# Altium footprint library Driver.PcbLib: 18 footprints (part 1 of 2)
Each footprint in its own frame and in the unit in brackets; x right, y up, seen from the top. Pads: shape width x height; smd on the part's side, far side on the other; paste and mask are expansions set on the pad; w line width, h text height; cw(c..) or ccw(c..) is an arc to the next point about the centre after c.
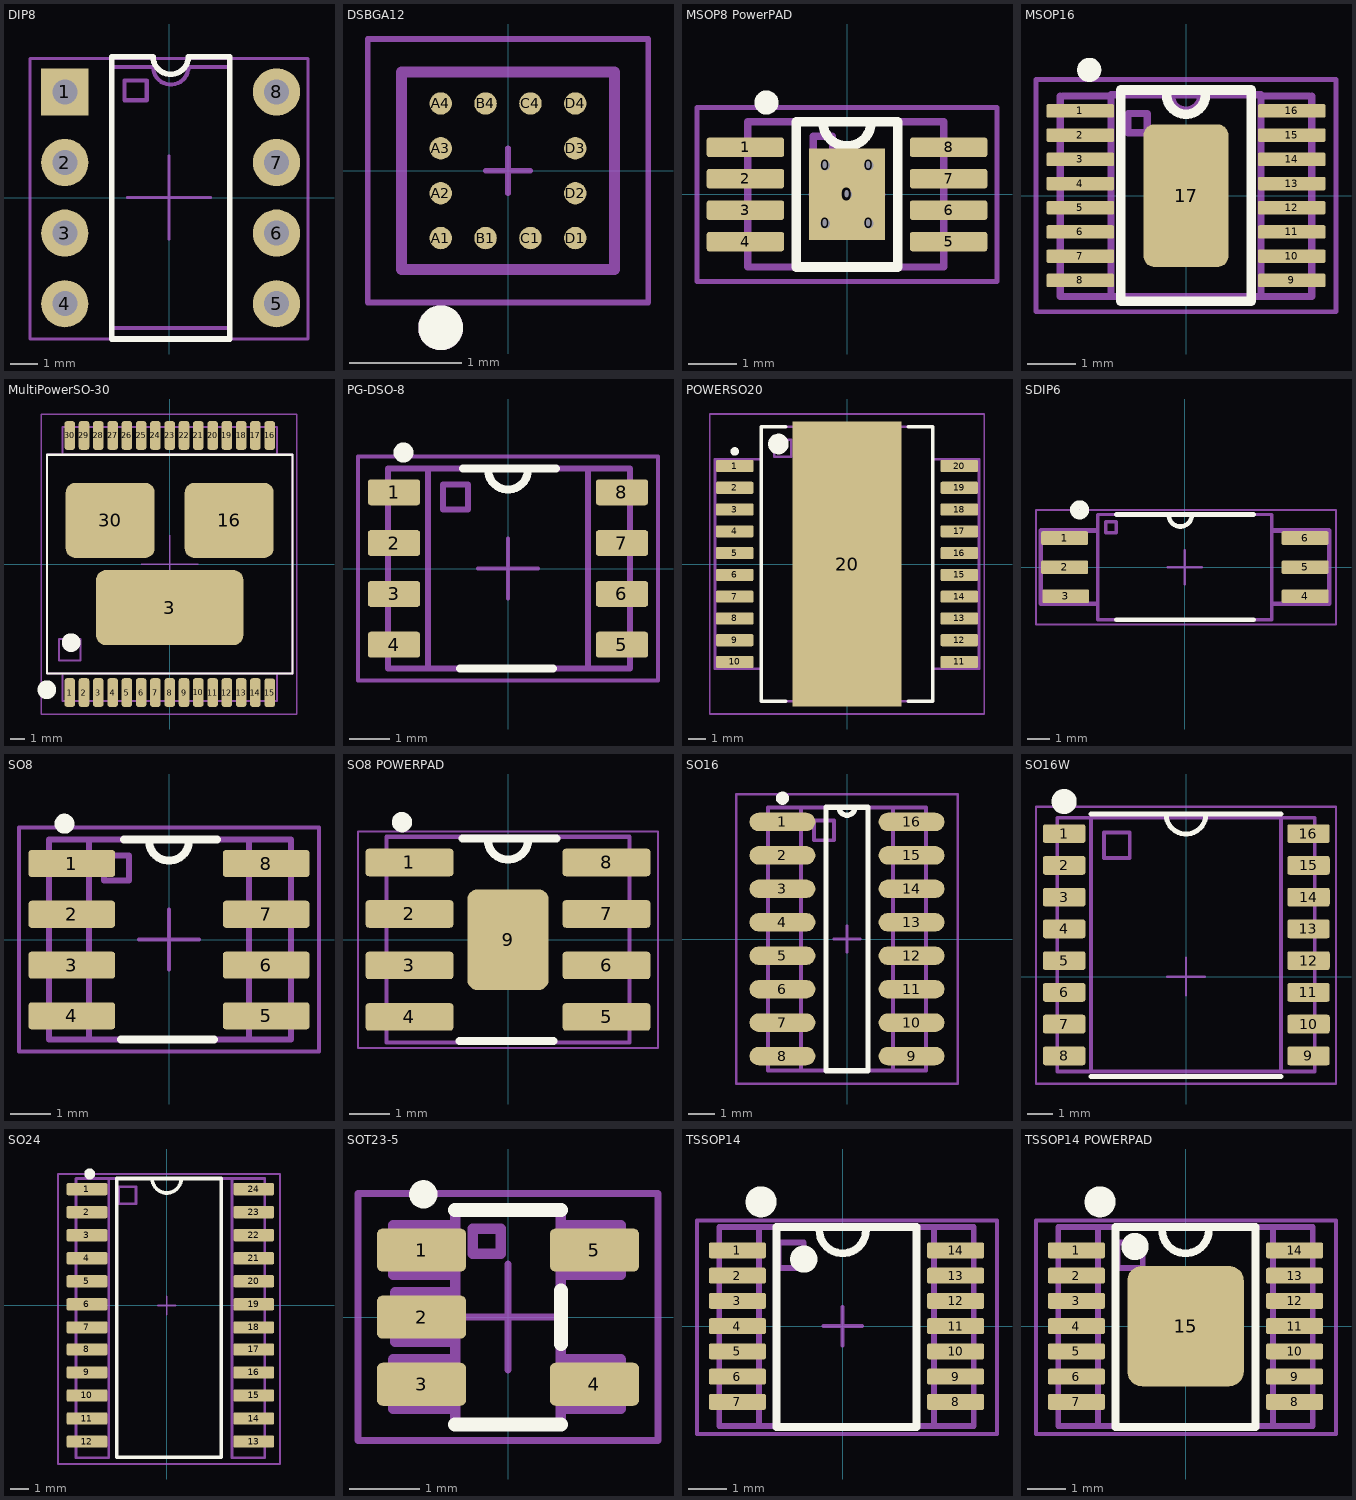
[diagram p0: the footprints below, top view; thin cyan lines are the x and y axes]

## DIP8 [mm]
pads (8):
  rect 1.7x1.7 hole 0.9: 1(-3.75,3.8)
  round 1.7 hole 0.9: 2(-3.75,1.26) 3(-3.75,-1.28) 4(-3.75,-3.82) 5(3.87,-3.82) 6(3.87,-1.28) 7(3.87,1.26) 8(3.87,3.8)
Top Overlay:
  lines w0.2: -2.065,-5.09 2.185,-5.09 2.185,5.07 0.695,5.07 cw(c0.06,5.07) -0.575,5.07 -2.065,5.07 -2.065,-5.09
Mechanical 7:
  lines w0.15: -2.065,-4.7 -2.065,4.7 -0.57,4.7 ccw(c0.065,4.7) 0.7,4.7 2.2,4.7 2.2,-4.7 -2.065,-4.7 ; -1.6,3.5 -1.6,4.212 -0.8,4.212 -0.8,3.5 -1.6,3.5
Mechanical 9:
  text ".Designator" at -5.1,6 h3
Mechanical 10:
  text ".Comment" at -3.1,-6.7 h2
Mechanical 15:
  lines w0.1: -1.5,0 1.5,0 ; 0,-1.5 0,1.5 ; -5,-5.09 -5,5 5,5 5,-5.09 -5,-5.09
3D body "User Library-DIP-8-1.step": height 4.36, standoff -3, extent -3.875,-4.71 3.995,4.69

## DSBGA12 [mm]
height 1.75
pads (12):
  round 0.2 smd: A1(-0.6,-0.6) A2(-0.6,-0.2) A3(-0.6,0.2) A4(-0.6,0.6) B1(-0.2,-0.6) B4(-0.2,0.6) C1(0.2,-0.6) C4(0.2,0.6) D1(0.6,-0.6) D2(0.6,-0.2) D3(0.6,0.2) D4(0.6,0.6)
Top Overlay:
  circle w0.2: c-0.6,-1.4 r0.1
Mechanical 9:
  text ".Designator" at -4.675,2.025 h3
Mechanical 10:
  text ".Comment" at -2.525,-2.95 h2
Mechanical 13:
  circle w0.2: c-0.6,-1.4 r0.1
  lines w0.1: -0.95,-0.88 0.95,-0.88 0.95,0.88 -0.95,0.88 -0.95,-0.88
Mechanical 15:
  lines w0.05: -0.2,0 0.2,0 ; 0,-0.2 0,0.2 ; -1.25,-1.175 -1.25,1.175 1.25,1.175 1.25,-1.175 -1.25,-1.175
3D body "step_temp.STEP": height 0.67, standoff 0.01, extent -0.937,-0.863 0.937,0.863

## MSOP8 PowerPAD [mm]
height 1.75
pads (14):
  round 0.4 hole 0.2: 0(-0.45,-0.6) 0(-0.45,0.6) 0(0,0) 0(0.45,-0.6) 0(0.45,0.6)
  rect 1.57x1.89 smd: 0(0,0)
  rrect25% 1.6x0.4 smd: 1(-2.1,0.975) 2(-2.1,0.325) 3(-2.1,-0.325) 4(-2.1,-0.975) 5(2.1,-0.975) 6(2.1,-0.325) 7(2.1,0.325) 8(2.1,0.975)
Top Overlay:
  circle w0.25: c-1.665,1.9 r0.125
  lines w0.2: -1.05,-1.5 -1.05,1.5 1.05,1.5 1.05,-1.5 -1,-1.5 ; -0.5,1.5 ccw(c0,1.5) 0.5,1.5
Mechanical 7:
  lines w0.15: -2.05,-1.5 -2.05,1.5 ; -2,-1.5 2,-1.5 2,1.5 -2,1.5 ; -1.05,-1.5 -1.05,1.5 ; 1.05,-1.5 1.05,1.5 ; -0.7,0.8 -0.7,1.2 -0.3,1.2 -0.3,0.8 -0.7,0.8
Mechanical 9:
  text ".Comment" at -1.25,-0.5 h0.8
  text ".Designator" at -1.25,0.25 h1
  text ".Designator" at -4.025,2.7 h3
Mechanical 10:
  text ".Comment" at -3.05,-3.275 h2
Mechanical 15:
  lines w0.1: -0.75,0 0.75,0 ; 0,-0.75 0,0.75 ; -3.1,-1.8 -3.1,1.8 3.1,1.8 3.1,-1.8 -3.1,-1.8
3D body "User Library-MSOP-8-4.step": height 0.96, standoff 0, extent -2.45,-1.5 2.45,1.5

## MSOP16 [mil]
height 68.9
pads (17):
  rrect25% 55x11 smd: 1(-86,68.95) 2(-86,49.25) 3(-86,29.55) 4(-86,9.85) 5(-86,-9.85) 6(-86,-29.55) 7(-86,-49.25) 8(-86,-68.95) 9(86,-68.95) 10(86,-49.25) 11(86,-29.55) 12(86,-9.85) 13(86,9.85) 14(86,29.55) 15(86,49.25) 16(86,68.95)
  rrect25% 69x116 smd: 17(0,0)
Top Overlay:
  circle w9.84: c-78.74,102.36 r4.92
  lines w7.87: -15.75,82 ccw(c0,82) 15.75,82 ; -53,-86 -53,86 53,86 53,-86 -53,-86
Top Paste:
  region: -30.56,-3.94 -30.56,-54.06 30.56,-54.06 30.56,-3.94
  region: -30.56,54.06 -30.56,3.94 30.56,3.94 30.56,54.06
Mechanical 7:
  lines w5.91: -47.24,51.18 -31.5,51.18 -31.5,66.93 -47.24,66.93 -47.24,51.18
  lines w6: -102.36,81.08 -102.36,-82 -61,-82 ; -100,81.08 -61,81.08 -61,63 -61,74 ; 61,81.08 100,81.08 ; 102.36,81.08 102.36,-82 61,-82 ; -61,-82 61,-82 ; -61,-82 -61,82 ; -61,-82 -61,82 ; -61,-82 61,-82 ; -61,82 12,82 ; -61,82 12,82 ; 12,82 61,82 ; 12,82 61,82 ; 61,-82 61,82 ; 61,-82 61,82 ; -61,-74 -61,-63 -61,-74 ; -61,-55 -61,-44 -61,-55 ; -61,-35 -61,-24 -61,-35 ; -61,-15 -61,-4 -61,-15 ; -61,4 -61,15 -61,4 ; -61,24 -61,35 -61,24 ; -61,44 -61,55 -61,44 ; -12,81.08 ccw(c0,81.5) 12,81.92 cw(c0,81.5) -12,81.08 ; 61,-74 61,-63 61,-74 ; 61,-55 61,-44 61,-55 ; 61,-35 61,-24 61,-35 ; 61,-15 61,-4 61,-15 ; 61,4 61,15 61,4 ; 61,24 61,35 61,24 ; 61,44 61,55 61,44 ; 61,63 61,74 61,63
Mechanical 9:
  text ".Designator" at -173.23,141.73 h118.11
Mechanical 10:
  text ".Comment" at -118.11,-153.54 h78.74
Mechanical 15:
  lines w3.94: -29.53,0 29.53,0 ; 0,-29.53 0,29.53 ; -122.05,-94.49 122.05,-94.49 122.05,94.49 -122.05,94.49 -122.05,-94.49
3D body "User Library-MSOP-16.step": height 37.8, standoff 3.94, extent -96.46,-79.51 96.46,79.51

## MultiPowerSO-30 [mm]
pads (33):
  rrect50% 0.74x2.01 smd: 1(-7,-9) 2(-6,-9) 3(-5,-9) 4(-4,-9) 5(-3,-9) 6(-2,-9) 7(-1,-9) 8(0,-9) 9(1,-9) 10(2,-8.995) 11(3,-9) 12(4,-9) 13(5,-9) 14(6,-9) 15(7,-9.01) 16(7,9) 17(6,9) 18(5,9) 19(4,9) 20(3,9) 21(2,9) 22(1,9) 23(0,9) 24(-1,9) 25(-2,9) 26(-3,9) 27(-4,9) 28(-5,9) 29(-6,9) 30(-7,9)
  rrect25% 10.3x5.25 smd: 3(0,-3.05)
  rrect25% 6.23x5.25 smd: 16(4.165,3.05) 30(-4.165,3.05)
Top Overlay:
  circle w1: c-6.9,-5.5 r0.15
  circle w1: c-8.6,-8.8 r0.15
  lines w0.15: -8.6,-7.675 -8.6,7.65 8.6,7.65 8.6,-7.675 -8.6,-7.675
Mechanical 9:
  text ".Designator" at -5.8,11.5 h3
Mechanical 11:
  lines w0.15: -8.6,-7.575 -8.6,7.65 8.6,7.65 8.6,-7.7 ; -8.5,-7.675 8.6,-7.675 ; -7.5,-7.675 -7.5,-9.6 7.5,-9.6 7.5,-7.675 ; -7.5,7.675 -7.5,9.6 7.5,9.6 7.5,7.675 ; -7.75,-6.75 -6.25,-6.75 -6.25,-5.25 -7.75,-5.25 -7.75,-6.75
Mechanical 15:
  lines w0.1: -2,0 2,0 ; 0,-2 0,2 ; -9,-10.5 -9,10.5 8.9,10.5 8.9,-10.5 -9,-10.5
3D body "User Library-PowSO30-ST.STEP": height 2.37, standoff -0.09, extent -8.6,-9.6 8.6,9.4

## PG-DSO-8 [mm]
height 1.75
pads (8):
  rrect25% 1.31x0.65 smd: 1(-2.85,1.905) 2(-2.85,0.635) 3(-2.85,-0.635) 4(-2.85,-1.905) 5(2.85,-1.905) 6(2.85,-0.635) 7(2.85,0.635) 8(2.85,1.905)
Top Overlay:
  circle w0.25: c-2.615,2.9 r0.125
  lines w0.2: -1.2,-2.5 1.125,-2.5 ; -1.125,2.5 1.2,2.5 ; -0.5,2.475 ccw(c0,2.475) 0.5,2.475
Mechanical 7:
  lines w0.15: -2,-2.5 -2,2.5 ; 2,-2.5 2,2.5 ; -3,-2.5 3.05,-2.5 3.05,2.5 -3,2.5 -3,-2.5 ; -1.625,1.475 -1.625,2.1 -1,2.1 -1,1.475 -1.625,1.475
Mechanical 9:
  text ".Designator" at -3.7,3.5 h3
Mechanical 10:
  text ".Comment" at -2.75,-4 h2
Mechanical 15:
  lines w0.1: -0.75,0 0.75,0 ; 0,-0.75 0,0.75 ; -3.75,-2.8 -3.75,2.8 3.75,2.8 3.75,-2.8 -3.75,-2.8
3D body "SOIC-8.STEP": height 1.7, standoff 0, extent -3,-2.54 3,2.54

## POWERSO20 [mm] "SOP, 20-Leads, Body 15.9x11mm, Pitch 1.27mm, IPC Medium Density"
height 3.6
pads (21):
  rrect25% 2.19x0.71 smd: 1(-6.55,5.715) 2(-6.55,4.445) 3(-6.55,3.175) 4(-6.55,1.905) 5(-6.55,0.635) 6(-6.55,-0.635) 7(-6.55,-1.905) 8(-6.55,-3.175) 9(-6.55,-4.445) 10(-6.55,-5.715) 11(6.55,-5.715) 12(6.55,-4.445) 13(6.55,-3.175) 14(6.55,-1.905) 15(6.55,-0.635) 16(6.55,0.635) 17(6.55,1.905) 18(6.55,3.175) 19(6.55,4.445) 20(6.55,5.715)
  rect 6.35x16.65 smd: 20(0,0)
Top Overlay:
  circle w0.6: c-4,7 r0.3
  circle w0.25: c-6.55,6.565 r0.125
  lines w0.2: -3.575,-8 -5,-8 -5,8 -3.575,8 ; 3.575,-8 5,-8 5,8 3.575,8
Mechanical 7:
  lines w0.15: -5,-6.1 -7.7,-6.1 -7.7,6.1 -5,6.1 ; 5,-6.1 7.7,-6.1 7.7,6.1 5,6.1 ; -5,-8 5,-8 5,8 -5,8 -5,-8 ; -4.25,6.25 -4.25,7.25 -3.25,7.25 -3.25,6.25 -4.25,6.25
Mechanical 9:
  text ".Designator" at -3.7,11.3 h3
Mechanical 10:
  text ".Comment" at -3.6,9.5 h2
Mechanical 15:
  lines w0.1: -1.25,0 1.25,0 ; 0,-1.25 0,1.25 ; -8,-8.75 8,-8.75 8,8.75 -8,8.75 -8,-8.75
3D body "User Library-PowerSO20.STEP": height 3.6, standoff 0, extent -7.15,-8 7.25,8

## SDIP6 [mm]
height 1.75
pads (6):
  rrect25% 2.05x0.6 smd: 1(-5.25,1.27) 2(-5.25,0) 3(-5.2,-1.27) 4(5.25,-1.27) 5(5.25,0) 6(5.25,1.27)
Top Overlay:
  circle w0.4: c-4.6,2.5 r0.217
  lines w0.2: -3,-2.3 3,-2.3 ; -3,2.3 3,2.3 ; -0.7,2.275 ccw(c-0.2,2.275) 0.3,2.275
Mechanical 7:
  lines w0.15: -3.8,-2.3 3.8,-2.3 3.8,2.3 -3.8,2.3 -3.8,-2.3 ; -3.45,1.5 -3,1.5 -3,1.975 -3.45,1.975 -3.45,1.5
  lines w0.2: -3.9,-1.6 -6.3,-1.6 -6.3,1.6 -3.9,1.6 ; 3.9,-1.6 6.3,-1.6 6.3,1.6 3.9,1.6
Mechanical 9:
  text ".Designator" at -4,2.9 h3
Mechanical 10:
  text ".Comment" at -2.8,-3.7 h2
Mechanical 15:
  lines w0.1: -0.75,0 0.75,0 ; 0,-0.75 0,0.75 ; -6.5,-2.5 6.6,-2.5 6.6,2.5 -6.5,2.5 -6.5,-2.5
3D body "User Library-10WSON (1).step": height 0.69, standoff 0, extent -1.505,-1.5 1.505,1.5

## SO8 [mm]
height 1.75
pads (8):
  rrect25% 2.17x0.68 smd: 1(-2.43,1.905) 2(-2.43,0.635) 3(-2.43,-0.635) 4(-2.43,-1.905) 5(2.43,-1.905) 6(2.43,-0.635) 7(2.43,0.635) 8(2.43,1.905)
Top Overlay:
  circle w0.25: c-2.615,2.9 r0.125
  lines w0.2: -1.2,-2.5 1.125,-2.5 ; -1.125,2.5 1.2,2.5 ; -0.5,2.475 ccw(c0,2.475) 0.5,2.475
Mechanical 7:
  lines w0.15: -2,-2.5 -2,2.5 ; 2,-2.5 2,2.5 ; -3,-2.5 3.05,-2.5 3.05,2.5 -3,2.5 -3,-2.5 ; -1.625,1.475 -1.625,2.1 -1,2.1 -1,1.475 -1.625,1.475
Mechanical 9:
  text ".Designator" at -3.7,3.5 h3
Mechanical 10:
  text ".Comment" at -2.75,-4 h2
Mechanical 15:
  lines w0.1: -0.75,0 0.75,0 ; 0,-0.75 0,0.75 ; -3.75,-2.8 -3.75,2.8 3.75,2.8 3.75,-2.8 -3.75,-2.8
3D body "SOIC-8.STEP": height 1.7, standoff 0, extent -3,-2.54 3,2.54

## SO8 POWERPAD [mm]
height 1.75
pads (9):
  rrect25% 2.17x0.68 smd: 1(-2.43,1.905) 2(-2.43,0.635) 3(-2.43,-0.635) 4(-2.43,-1.905) 5(2.43,-1.905) 6(2.43,-0.635) 7(2.43,0.635) 8(2.43,1.905)
  rrect25% 2.007x2.489 smd: 9(0,0)
Top Overlay:
  circle w0.25: c-2.615,2.9 r0.125
  lines w0.2: -1.2,-2.5 1.125,-2.5 ; -1.125,2.5 1.2,2.5 ; -0.5,2.475 ccw(c0,2.475) 0.5,2.475
Mechanical 13:
  lines w0.1: -3,-2.54 3,-2.54 3,2.54 -3,2.54 -3,-2.54
Mechanical 15:
  lines w0.05: -0.375,0 0.375,0 ; 0,-0.375 0,0.375 ; -3.7,-2.675 -3.7,2.664 3.7,2.664 3.7,-2.675 -3.7,-2.675
3D body "SOIC-8.STEP": height 1.7, standoff 0, extent -3,-2.54 3,2.54

## SO16 [mm] "16-Pin Small Outline Integrated Circuit 1.27 mm Pitch, IPC Low Density"
height 1.75
pads (16):
  oval 2.5x0.7 smd: 1(-2.45,4.445) 2(-2.45,3.175) 3(-2.45,1.905) 4(-2.45,0.635) 5(-2.45,-0.635) 6(-2.45,-1.905) 7(-2.45,-3.175) 8(-2.45,-4.445) 9(2.45,-4.445) 10(2.45,-3.175) 11(2.45,-1.905) 12(2.45,-0.635) 13(2.45,0.635) 14(2.45,1.905) 15(2.45,3.175) 16(2.45,4.445)
Top Overlay:
  circle w0.25: c-2.45,5.345 r0.125
  lines w0.2: -0.3,5 ccw(c0,5) 0.3,5 ; -0.8,-5 -0.8,5 0.8,5 0.8,-5 -0.8,-5
Mechanical 7:
  lines w0.15: -1.75,-5 -1.75,5 ; -1.75,-5 1.75,-5 ; -1.75,-5 -3,-5 -3,5 -1.75,5 ; -1.75,5 1.75,5 ; 1.75,-5 1.75,5 ; 1.75,-5 3,-5 3,5 1.75,5 ; -1.25,3.75 -1.25,4.5 -0.5,4.5 -0.5,3.75 -1.25,3.75
Mechanical 9:
  text ".Designator" at -4.3,6.3 h3
Mechanical 10:
  text ".Comment" at -2.5,-7 h2
Mechanical 15:
  lines w0.1: -0.5,0 0.5,0 ; 0,-0.5 0,0.5 ; -4.2,-5.5 -4.2,5.5 4.2,5.5 4.2,-5.5 -4.2,-5.5
3D body "so16-1 (SOT109-1).STEP": height 1.78, standoff 0.01, extent -3.068,-4.985 3.068,4.985

## SO16W [mm]
pads (16):
  rrect25% 1.7x0.75 smd: 1(-4.875,5.715) 2(-4.875,4.445) 3(-4.875,3.175) 4(-4.875,1.905) 5(-4.875,0.635) 6(-4.875,-0.635) 7(-4.875,-1.905) 8(-4.875,-3.175) 9(4.9,-3.175) 10(4.9,-1.905) 11(4.9,-0.635) 12(4.9,0.635) 13(4.9,1.905) 14(4.9,3.175) 15(4.9,4.445) 16(4.9,5.715)
Top Overlay:
  circle w0.5: c-4.875,7 r0.25
  lines w0.2: -3.8,-4 3.8,-4 ; -3.8,6.5 3.8,6.5 ; -0.8,6.5 ccw(c0,6.5) 0.8,6.5
Mechanical 7:
  lines w0.15: -3.8,-3.8 3.75,-3.8 ; -3.8,-3.8 -3.8,6.35 ; -3.8,-3.8 -5.15,-3.8 -5.15,6.35 -3.8,6.35 ; -3.8,6.35 3.8,6.35 ; 3.75,-3.8 5.15,-3.8 5.15,6.35 3.8,6.35 ; 3.75,-3.8 3.8,-3.8 3.8,6.35 ; -3.281,4.737 -2.25,4.737 -2.25,5.762 -3.281,5.762 -3.281,4.737
Mechanical 9:
  text ".Designator" at -4.9,7.9 h3
Mechanical 10:
  text ".Comment" at -3,-8.25 h2
Mechanical 15:
  lines w0.1: -0.75,0 0.75,0 ; 0,-0.75 0,0.75 ; -6,-4.3 -6,6.8 6,6.8 6,-4.3 -6,-4.3
3D body "SO16W.STEP": height 2.34, standoff -0.19, extent -5.245,-3.955 5.3,6.355

## SO24 [mm] "SOIC, 24-Leads, Body 15,4x7,6mm, Pitch 1,27mm, IPC Medium Density"
height 2.65
pads (24):
  rrect25% 2.25x0.67 smd: 1(-4.4,6.41) 2(-4.4,5.14) 3(-4.4,3.87) 4(-4.4,2.6) 5(-4.4,1.33) 6(-4.4,0.06) 7(-4.4,-1.21) 8(-4.4,-2.43) 9(-4.4,-3.7) 10(-4.4,-4.97) 11(-4.4,-6.24) 12(-4.4,-7.51) 13(4.8,-7.51) 14(4.8,-6.24) 15(4.8,-4.97) 16(4.8,-3.7) 17(4.8,-2.43) 18(4.8,-1.21) 19(4.8,0.06) 20(4.8,1.33) 21(4.8,2.6) 22(4.8,3.87) 23(4.8,5.14) 24(4.8,6.41)
Top Overlay:
  circle w0.3: c-4.25,7.25 r0.15
  lines w0.2: -0.8,7 ccw(c0,7) 0.8,7 ; -2.75,-8.375 3,-8.375 3,7 -2.75,7 -2.75,-8.375
Mechanical 7:
  lines w0.15: -1.75,-8.4 1.75,-8.4 ; 1.75,7 5.4,7 5.4,-8.4 3.6,-8.4 3.6,7 -3.2,7 ; -3.2,7 -5,7 -5,-8.4 -3.2,-8.4 -3.2,7 ; -2.65,5.6 -1.7,5.6 -1.7,6.55 -2.65,6.55 -2.65,5.6
Mechanical 9:
  text ".Designator" at -4.9,8.3 h3
Mechanical 10:
  text ".Comment" at -3,-10.75 h2
Mechanical 15:
  lines w0.1: -0.5,0 0.5,0 ; 0,-0.5 0,0.5 ; -6,-8.75 6.25,-8.75 6.25,7.25 -6,7.25 -6,-8.75
3D body "User Library-SOIC_24-300.STEP": height 2.6, standoff 0, extent -5,-8.4 5.4,7

## SOT23-5 [mm]
height 1.12
pads (5):
  rrect25% 1.26x0.61 smd: 1(-1.225,0.95) 2(-1.225,0) 3(-1.225,-0.95) 4(1.225,-0.95) 5(1.225,0.95)
Top Overlay:
  circle w0.2: c-1.2,1.74 r0.1
  lines w0.2: -0.75,-1.52 0.75,-1.52 ; -0.75,1.52 0.75,1.52 ; 0.75,-0.38 0.75,0.38
Mechanical 9:
  text ".Designator" at -4.575,2.7 h3
Mechanical 10:
  text ".Comment" at -3.325,-3.55 h2
Mechanical 11:
  lines w0.15: -0.75,-1.3 -1.625,-1.3 -1.625,-0.6 -0.75,-0.6 ; -0.75,-0.35 -1.6,-0.35 -1.6,0.35 -0.75,0.35 ; -0.75,0.6 -1.625,0.6 -1.625,1.3 -0.75,1.3 ; 0.75,-1.3 1.6,-1.3 1.6,-0.6 0.75,-0.6 ; 0.75,0.6 1.6,0.6 1.6,1.3 0.75,1.3 ; -0.75,-1.52 0.75,-1.52 0.75,1.52 -0.75,1.52 -0.75,-1.52 ; -0.5,0.9 -0.1,0.9 -0.1,1.25 -0.5,1.25 -0.5,0.9
Mechanical 15:
  lines w0.1: -0.75,0 0.75,0 ; 0,-0.75 0,0.75 ; -2.125,-1.75 -2.125,1.75 -2,1.75 2.125,1.75 2.125,-1.75 -2.125,-1.75
3D body "User Library-SOT23-5-3.STEP": height 1.45, standoff 0.01, extent -1.6,-1.555 1.6,1.545

## TSSOP14 [mm]
height 1.1
pads (14):
  rrect25% 1.47x0.41 smd: 1(-2.71,1.95) 2(-2.71,1.3) 3(-2.71,0.65) 4(-2.71,0) 5(-2.71,-0.65) 6(-2.71,-1.3) 7(-2.71,-1.95) 8(2.91,-1.95) 9(2.91,-1.3) 10(2.91,-0.65) 11(2.91,0) 12(2.91,0.65) 13(2.91,1.3) 14(2.91,1.95)
Top Overlay:
  circle w0.4: c-1,1.725 r0.15
  circle w0.4: c-2.1,3.2 r0.2
  lines w0.2: -0.6,2.475 ccw(c0,2.475) 0.6,2.475 ; -1.7,-2.6 1.9,-2.6 1.9,2.55 -1.7,2.55 -1.7,-2.6
Mechanical 7:
  lines w0.15: -2.15,-2.575 -2.15,2.55 ; 2.35,-2.575 2.35,2.55 ; -3.175,-2.575 3.375,-2.575 3.375,2.55 -3.175,2.55 -3.175,-2.575 ; -1.65,1.5 -1,1.5 -1,2.15 -1.65,2.15 -1.65,1.5
Mechanical 9:
  text ".Designator" at -4.2,6.1 h3
Mechanical 10:
  text ".Comment" at -2.71,-6.625 h2
Mechanical 15:
  lines w0.1: -0.5,0 0.5,0 ; 0,-0.5 0,0.5 ; -3.75,-2.775 3.975,-2.775 3.975,2.725 -3.75,2.725 -3.75,-2.775
3D body "User Library-tssop14-2.STEP": height 1.2, standoff 0, extent -3.1,-2.55 3.3,2.55

## TSSOP14 POWERPAD [mm]
height 1.1
pads (15):
  rrect25% 1.47x0.41 smd: 1(-2.81,1.95) 2(-2.81,1.3) 3(-2.81,0.65) 4(-2.81,0) 5(-2.81,-0.65) 6(-2.81,-1.3) 7(-2.81,-1.95) 8(2.81,-1.95) 9(2.81,-1.3) 10(2.81,-0.65) 11(2.81,0) 12(2.81,0.65) 13(2.81,1.3) 14(2.81,1.95)
  rrect25% 3x3.1 smd: 15(0,0)
Top Overlay:
  circle w0.4: c-1.3,2.05 r0.15
  circle w0.4: c-2.2,3.2 r0.2
  lines w0.2: -0.6,2.475 ccw(c0,2.475) 0.6,2.475 ; -1.8,-2.6 1.8,-2.6 1.8,2.55 -1.8,2.55 -1.8,-2.6
Mechanical 7:
  lines w0.15: -2.25,-2.575 -2.25,2.55 ; 2.25,-2.575 2.25,2.55 ; -3.275,-2.575 3.275,-2.575 3.275,2.55 -3.275,2.55 -3.275,-2.575 ; -1.75,1.5 -1.1,1.5 -1.1,2.15 -1.75,2.15 -1.75,1.5
Mechanical 9:
  text ".Designator" at -4.2,6.1 h3
Mechanical 10:
  text ".Comment" at -2.71,-6.625 h2
Mechanical 15:
  lines w0.1: -0.5,0 0.5,0 ; 0,-0.5 0,0.5 ; -3.85,-2.775 3.875,-2.775 3.875,2.725 -3.85,2.725 -3.85,-2.775
3D body "User Library-tssop14-2.STEP": height 1.2, standoff 0, extent -3.2,-2.55 3.2,2.55